# EAGLE library part STM32G4-32 (library Bits_library_eagle 9x)
STM32F4, 64 pin package According to STM32F40x datasheet, compatible with STM32F4xx, STM32F2xx. Also compatible with STM32F10x, if VCAP1 and VCAP2 are connected directly to VSS.
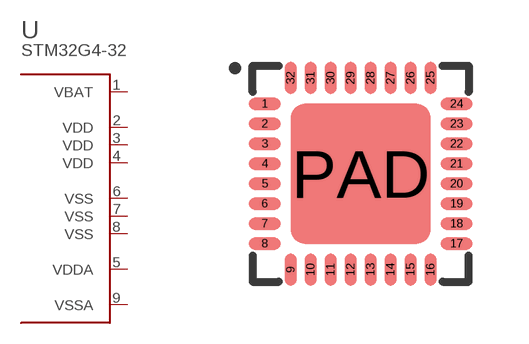
[diagram p50: symbol with the pads of UFQFPN32; footprint UFQFPN32]

Designator prefix U

## STM32G4-32  [UFQFPN32]
1  VBAT  pwr
2  VDD  pwr
3  VDD  pwr
4  VDD  pwr
5  VDDA  pwr
6  VSS  pwr
7  VSS  pwr
8  VSS  pwr
9  VSSA  pwr

## Footprint UFQFPN32 (pad centres in mm)
smd 0.8 x 0.3: 1 -2.4,1.75; 2 -2.4,1.25; 3 -2.4,0.75; 4 -2.4,0.25; 5 -2.4,-0.25; 6 -2.4,-0.75; 7 -2.4,-1.25; 8 -2.4,-1.75; 17 2.4,-1.75; 18 2.4,-1.25; 19 2.4,-0.75; 20 2.4,-0.25; 21 2.4,0.25; 22 2.4,0.75; 23 2.4,1.25; 24 2.4,1.75
smd 0.3 x 0.8: 9 -1.75,-2.4; 10 -1.25,-2.4; 11 -0.75,-2.4; 12 -0.25,-2.4; 13 0.25,-2.4; 14 0.75,-2.4; 15 1.25,-2.4; 16 1.75,-2.4; 25 1.75,2.4; 26 1.25,2.4; 27 0.75,2.4; 28 0.25,2.4; 29 -0.25,2.4; 30 -0.75,2.4; 31 -1.25,2.4; 32 -1.75,2.4
smd 3.5 x 3.5: PAD 0,0